# Altium schematic symbol library CAP,Cer,10nF,50VDC,X7R,0603.Schlib: 1 symbol
Pins are listed as number, name and electrical type; pins without a type are passive.

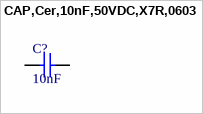
[diagram p0: symbol CAP,Cer,10nF,50VDC,X7R,0603]

## CAP,Cer,10nF,50VDC,X7R,0603
designator C?, comment 10nF
10000pF ±10% 50V Ceramic Capacitor X7R 0603 (1608 Metric)
pins: 1, 2